# EAGLE library part HEADER_POS9_? (library con-molex-micro-fit-3_0)
Molex - Micro-Fit 3.0 Series connector, 3.00mm (0.118") pitch header, 9 positions.
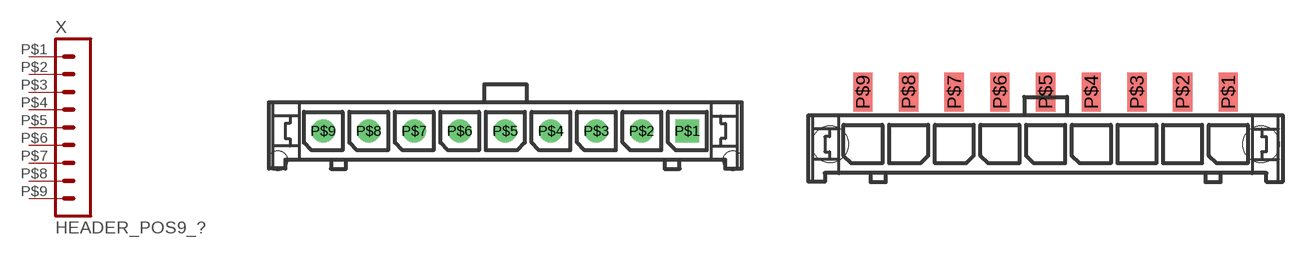
[diagram p6: symbol with the pads of 43650-0915; footprints 43650-0915, 43650-0921]

Designator prefix X

## HEADER_POS9_43650-0915  [43650-0915]
P$1  1  pas
P$2  2  pas
P$3  3  pas
P$4  4  pas
P$5  5  pas
P$6  6  pas
P$7  7  pas
P$8  8  pas
P$9  9  pas

## HEADER_POS9_43650-0921  [43650-0921]
Pads as for 43650-0915

## HEADER_POS9_43650-0924  [43650-0924]
Pads as for 43650-0915

## HEADER_POS9_43650-0900  [43650-0900]
Pads as for 43650-0915

## HEADER_POS9_43650-0909  [43650-0909]
P$1  2  pas
P$2  1  pas
P$3  3  pas
P$4  4  pas
P$5  5  pas
P$6  6  pas
P$7  7  pas
P$8  8  pas
P$9  9  pas

## HEADER_POS9_43650-0912  [43650-0912]
Pads as for 43650-0915

## Footprint 43650-0915 (pad centres in mm)
Molex Micro-Fit 3.0 - Header Shrouded, Thru hole, Vertical, with Pegs; P/N: SD-43650-0915, SD-43650-0916, SD-43650-0917 http://www.molex.com/pdm_docs/sd/436500215_sd.pdf
drill 1.02 square: P$1 12,0
drill 1.02: P$2 9,0; P$3 6,0; P$4 3,0; P$5 0,0; P$6 -3,0; P$7 -6,0; P$8 -9,0; P$9 -12,0
hole 1.27 at 15,-1.96
hole 1.27 at -15,-1.96

## Footprint 43650-0921 (pad centres in mm)
Molex Micro-Fit 3.0 - Header Shrouded, Thru hole, Vertical, with Solderable Retention Clips; P/N: SD-43650-0921, SD-43650-0922, SD-43650-0923 http://www.molex.com/pdm_docs/sd/436500221_sd.pdf
smd 1.27 x 2.54: P$1 12,3.43; P$2 9,3.43; P$3 6,3.43; P$4 3,3.43; P$5 0,3.43; P$6 -3,3.43; P$7 -6,3.43; P$8 -9,3.43; P$9 -12,3.43
hole 2.41 at 14.15,0
hole 2.41 at -14.15,0

## Footprint 43650-0924 (pad centres in mm)
Molex Micro-Fit 3.0 - Header Shrouded, Thru hole, Vertical, with Solder Tabs; P/N: SD-43650-0924, SD-43650-0925, SD-43650-0926 http://www.molex.com/pdm_docs/sd/436500224_sd.pdf
smd 1.27 x 2.54: P$1 12.036,3.503; P$2 9.036,3.503; P$3 6.036,3.503; P$4 3.036,3.503; P$5 0.036,3.503; P$6 -2.964,3.503; P$7 -5.964,3.503; P$8 -8.964,3.503; P$9 -11.964,3.503
smd 3.43 x 1.65: TAB1 15.926,0.073; TAB2 -15.854,0.073

## Footprint 43650-0900 (pad centres in mm)
Molex Micro-Fit 3.0 - Header Shrouded, Thru hole, Right Angle, with Pegs; P/N: SD-43650-0900, SD-43650-0901, SD-43650-0902 http://www.molex.com/pdm_docs/sd/436500200_sd.pdf
drill 1.02 square: P$1 12,4.32
drill 1.02: P$2 9,4.32; P$3 6,4.32; P$4 3,4.32; P$5 0,4.32; P$6 -3,4.32; P$7 -6,4.32; P$8 -9,4.32; P$9 -12,4.32
hole 3 at 9.85,0
hole 3 at -9.85,0

## Footprint 43650-0909 (pad centres in mm)
Molex Micro-Fit 3.0 - Header Shrouded, Thru hole, Right Angle, with Solderable Retention Clips; P/N: SD-43650-0909, SD-43650-0910, SD-43650-0911 http://www.molex.com/pdm_docs/sd/436500209_sd.pdf
smd 1.27 x 2.92: P$1 12,5.48; P$2 9,5.48; P$3 6,5.48; P$4 3,5.48; P$5 0,5.48; P$6 -3,5.48; P$7 -6,5.48; P$8 -9,5.48; P$9 -12,5.48
hole 2.41 at 14.15,0
hole 2.41 at -14.15,0

## Footprint 43650-0912 (pad centres in mm)
Molex Micro-Fit 3.0 - Header Shrouded, Surface mount, Right Angle, with Solderable tabs; P/N: SD-43650-0912, SD-43650-0913, SD-43650-0914 http://www.molex.com/pdm_docs/sd/436500212_sd.pdf
smd 1.27 x 2.92: P$1 12,5.48; P$2 9,5.48; P$3 6,5.48; P$4 3,5.48; P$5 0,5.48; P$6 -3,5.48; P$7 -6,5.48; P$8 -9,5.48; P$9 -12,5.48
smd 3.43 x 1.65: TAB1 15.88,0; TAB2 -15.88,0